# Altium footprint library SignalCommunications.PCBLIB: 466 footprints (part 23 of 30)
Each footprint in its own frame and in the unit in brackets; x right, y up, seen from the top. Pads: shape width x height; smd on the part's side, far side on the other; paste and mask are expansions set on the pad; w line width, h text height; cw(c..) or ccw(c..) is an arc to the next point about the centre after c.
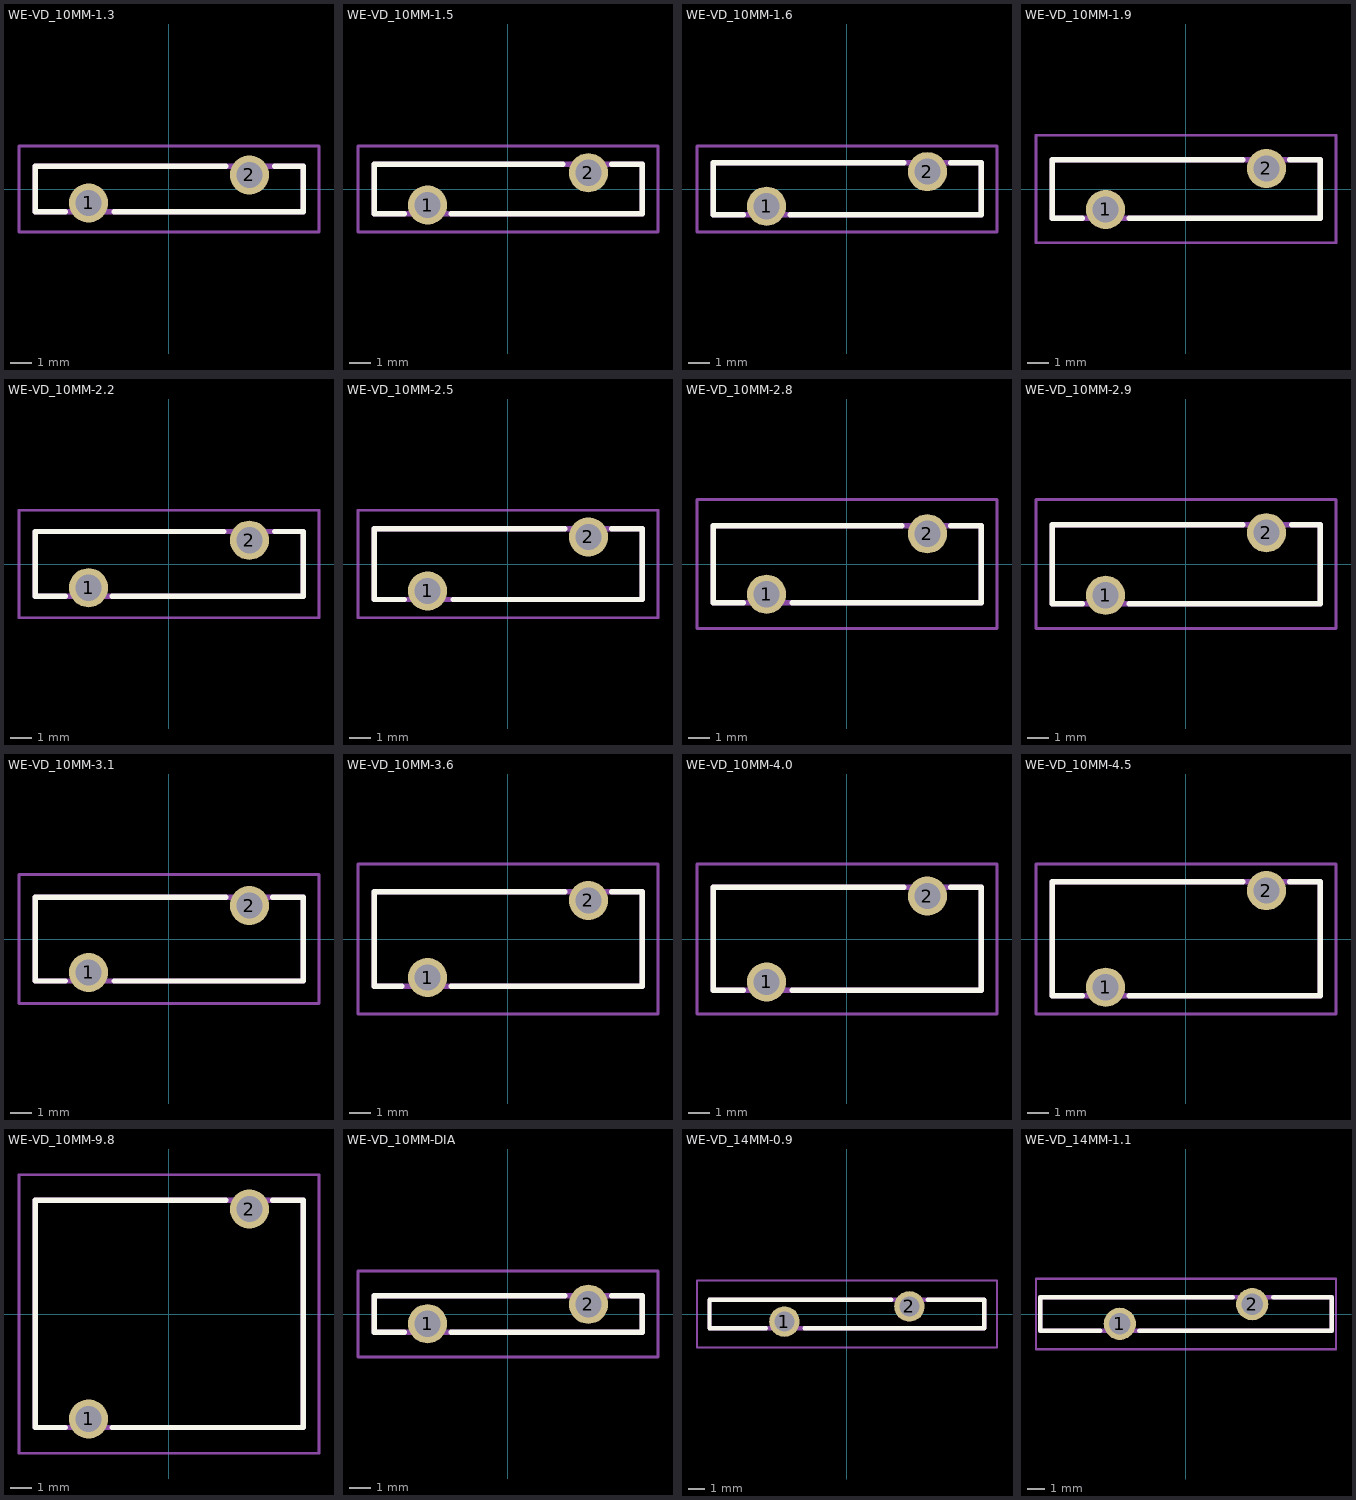
[diagram p22: the footprints below, top view; thin cyan lines are the x and y axes]

## WE-VD_10MM-1.3 [mil]
pads (2):
  round 72 hole 48: 1(-147.64,-25.59) 2(148,26)
Top Overlay:
  lines w10: -190.94,-41.34 -246.06,-41.34 -246.06,42 105,42 ; -100.39,-41.34 247,-41.34 247,42 195,42
Mechanical 16:
  lines w10: -246.06,-41.34 247,-41.34 247,42 -246.06,42 -246.06,-41.34
Mechanical 27:
  lines w5: -275.59,-78.74 276,-78.74 276,79 -275.59,79 -275.59,-78.74

## WE-VD_10MM-1.5 [mil]
pads (2):
  round 72 hole 48: 1(-147.64,-29.53) 2(148,30)
Top Overlay:
  lines w10: -190.94,-45.28 -246.06,-45.28 -246.06,46 101,46 ; -104.33,-45.28 247,-45.28 247,46 191,46
Mechanical 16:
  lines w10: -242.13,-45.28 -246.06,-45.28 -246.06,46 247,46 247,-45.28 -238.19,-45.28
Mechanical 27:
  lines w5: -275.59,-78.74 -275.59,79 276,79 276,-78.74 -275.59,-78.74

## WE-VD_10MM-1.6 [mil]
pads (2):
  round 72 hole 48: 1(-147.64,-31.5) 2(148,32)
Top Overlay:
  lines w10: -190.94,-47.24 -246.06,-47.24 -246.06,48 105,48 ; -104.33,-47.24 247,-47.24 247,48 191,48
Mechanical 16:
  lines w10: -246.06,48 -246.06,-47.24 247,-47.24 247,48 -242.13,48
Mechanical 27:
  lines w5: -275.59,-78.74 276,-78.74 276,79 -275.59,79 -275.59,-78.74

## WE-VD_10MM-1.9 [mil]
pads (2):
  round 72 hole 48: 1(-147.64,-37.4) 2(148,38)
Top Overlay:
  lines w10: -190.94,-53.15 -246.06,-53.15 -246.06,54 105,54 ; -104.33,-53.15 247,-53.15 247,54 191,54
Mechanical 16:
  lines w10: -246.06,-53.15 247,-53.15 247,54 -246.06,54 -246.06,-53.15
Mechanical 27:
  lines w5: -275.59,-98.43 276,-98.43 276,99 -275.59,99 -275.59,-98.43

## WE-VD_10MM-2.2 [mil]
pads (2):
  round 72 hole 48: 1(-147.64,-43.31) 2(148,44)
Top Overlay:
  lines w10: -246.06,60 -246.06,-59.06 -190.94,-59.06 ; -242.13,60 101,60 ; -104.33,-59.06 247,-59.06 247,60 195,60
Mechanical 16:
  lines w10: -246.06,-59.06 247,-59.06 247,60 -246.06,60 -246.06,-59.06
Mechanical 27:
  lines w5: -275.59,-98.43 -275.59,99 276,99 276,-98.43 -275.59,-98.43

## WE-VD_10MM-2.5 [mil]
pads (2):
  round 72 hole 48: 1(-147.64,-49.21) 2(148,50)
Top Overlay:
  lines w10: -246.06,62 -246.06,-64.96 -190.94,-64.96 ; -246.06,65 105,65 ; -100.39,-64.96 247,-64.96 247,65 191,65
Mechanical 16:
  lines w10: -246.06,65 -246.06,-64.96 247,-64.96 247,65 -242.13,65
Mechanical 27:
  lines w5: -275.59,-98.43 276,-98.43 276,99 -275.59,99 -275.59,-98.43

## WE-VD_10MM-2.8 [mil]
pads (2):
  round 72 hole 48: 1(-147.64,-55.12) 2(148,56)
Top Overlay:
  lines w10: -190.94,-70.87 -246.06,-70.87 -246.06,71 101,71 ; -100.39,-70.87 247,-70.87 247,71 191,71
Mechanical 16:
  lines w10: -246.06,-70.87 247,-70.87 247,71 -246.06,71 -246.06,-70.87
Mechanical 27:
  lines w5: -275.59,-118.11 276,-118.11 276,119 -275.59,119 -275.59,-118.11

## WE-VD_10MM-2.9 [mil]
pads (2):
  round 72 hole 48: 1(-147.64,-57.09) 2(148,58)
Top Overlay:
  lines w10: -246.06,73 -246.06,-72.83 -190.94,-72.83 ; -242.13,73 105,73 ; -104.33,-72.83 247,-72.83 247,73 195,73
Mechanical 16:
  lines w10: -246.06,69 -246.06,-72.83 247,-72.83 247,73 -246.06,73
Mechanical 27:
  lines w5: -275.59,-118.11 -275.59,119 276,119 276,-118.11 -275.59,-118.11

## WE-VD_10MM-3.1 [mil]
pads (2):
  round 72 hole 48: 1(-147.64,-61.02) 2(148,62)
Top Overlay:
  lines w10: -190.94,-76.77 -246.06,-76.77 -246.06,77 105,77 ; -100.39,-76.77 247,-76.77 247,77 191,77
Mechanical 16:
  lines w10: -246.06,-76.77 247,-76.77 247,77 -246.06,77 -246.06,-76.77
Mechanical 27:
  lines w5: -275.59,-118.11 -275.59,119 276,119 276,-118.11 -275.59,-118.11

## WE-VD_10MM-3.6 [mil]
pads (2):
  round 72 hole 48: 1(-147.64,-70.87) 2(148,71)
Top Overlay:
  lines w10: -194.88,-86.61 -246.06,-86.61 -246.06,87 105,87 ; -104.33,-86.61 247,-86.61 247,87 191,87
Mechanical 16:
  lines w10: -246.06,-86.61 247,-86.61 247,87 -246.06,87 -246.06,-86.61
Mechanical 27:
  lines w5: -275.59,-137.8 -275.59,138 276,138 276,-137.8 -275.59,-137.8

## WE-VD_10MM-4.0 [mil]
pads (2):
  round 72 hole 48: 1(-147.64,-78.74) 2(148,79)
Top Overlay:
  lines w10: -246.06,95 -246.06,-94.49 -190.94,-94.49 ; -242.13,95 105,95 ; -100.39,-94.49 247,-94.49 247,95 191,95
Mechanical 16:
  lines w10: -246.06,95 -246.06,-94.49 247,-94.49 247,95 -242.13,95
Mechanical 27:
  lines w5: -275.59,-137.8 -275.59,138 276,138 276,-137.8 -275.59,-137.8

## WE-VD_10MM-4.5 [mil]
pads (2):
  round 72 hole 48: 1(-147.64,-88.58) 2(148,89)
Top Overlay:
  lines w10: -190.94,-104.33 -246.06,-104.33 -246.06,105 105,105 ; -104.33,-104.33 247,-104.33 247,105 191,105
Mechanical 16:
  lines w10: -246.06,105 -246.06,-104.33 247,-104.33 247,105 -242.13,105
Mechanical 27:
  lines w5: -275.59,-137.8 -275.59,138 276,138 276,-137.8 -275.59,-137.8

## WE-VD_10MM-9.8 [mil]
pads (2):
  round 72 hole 48: 1(-147.64,-192.91) 2(148,193)
Top Overlay:
  lines w10: -190.94,-208.66 -246.06,-208.66 -246.06,209 105,209 ; -104.33,-208.66 247,-208.66 247,209 191,209
Mechanical 16:
  lines w10: -246.06,-208.66 -246.06,209 247,209 247,-208.66 -246.06,-208.66
Mechanical 27:
  lines w5: -275.59,-255.91 -275.59,256 276,256 276,-255.91 -275.59,-255.91

## WE-VD_10MM-DIA [mil]
pads (2):
  round 72 hole 48: 1(-147.64,-17.72) 2(148,18)
Top Overlay:
  lines w10: -190.94,-33.46 -246.06,-33.46 -246.06,34 105,34 ; -104.33,-33.46 247,-33.46 247,34 191,34
Mechanical 16:
  lines w10: -246.06,-33.46 -246.06,34 247,34 247,-33.46 -246.06,-33.46
Mechanical 27:
  lines w5: -275.59,-78.74 -275.59,79 276,79 276,-78.74 -275.59,-78.74

## WE-VD_14MM-0.9 [mil]
pads (2):
  round 72 hole 48: 1(-147.64,-17.72) 2(148,18)
Top Overlay:
  lines w10: -324.8,30 -324.8,-33.46 -190.94,-33.46 ; -324.8,34 105,34 ; -100.39,-33.46 325,-33.46 325,34 191,34
Mechanical 16:
  lines w10: -324.8,-33.46 -324.8,34 325,34 325,-33.46 -324.8,-33.46
Mechanical 27:
  lines w5: -354.33,-78.74 -354.33,79 355,79 355,-78.74 -354.33,-78.74

## WE-VD_14MM-1.1 [mil]
pads (2):
  round 72 hole 48: 1(-147.64,-21.65) 2(148,22)
Top Overlay:
  lines w10: -190.94,-37.4 -324.8,-37.4 -324.8,38 105,38 ; -104.33,-37.4 325,-37.4 325,38 195,38
Mechanical 16:
  lines w10: -324.8,-37.4 -324.8,38 325,38 325,-37.4 -324.8,-37.4
Mechanical 27:
  lines w5: -334.65,-78.74 335,-78.74 335,79 -334.65,79 -334.65,-78.74